# EAGLE library part UPC1277H (library Audio-Power-amlifier V.2.0)
The uPC1277H is a dual audio power ampliifier designed for a stereo radio cassette and in a 12-pin SIP power single in line plastic package.The uPC1277H has two audio power amplifiers and each of two provides 4,2 W output power at 12V/4 OHMS.
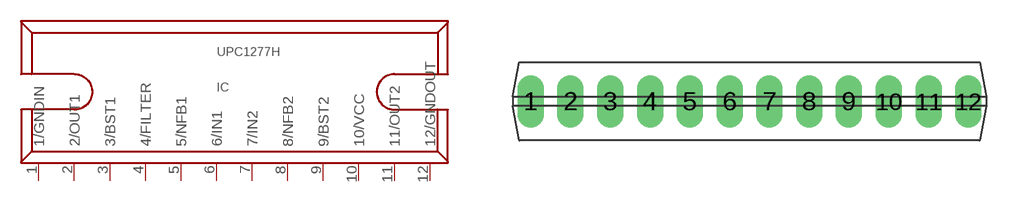
[diagram p75: symbol with the pads of SIP12; footprint SIP12]

Designator prefix IC

## UPC1277H  [SIP12]
1  1/GNDIN  pwr
2  2/OUT1  out
3  3/BST1
4  4/FILTER
5  5/NFB1
6  6/IN1  in
7  7/IN2  in
8  8/NFB2
9  9/BST2
10  10/VCC  pwr
11  11/OUT2  out
12  12/GNDOUT  pwr

## Footprint SIP12 (pad centres in mm)
drill 0.8 pad 1.676 long: 1 -13.97,0; 2 -11.43,0; 3 -8.89,0; 4 -6.35,0; 5 -3.81,0; 6 -1.27,0; 7 1.27,0; 8 3.81,0; 9 6.35,0; 10 8.89,0; 11 11.43,0; 12 13.97,0